# Altium schematic symbol library TRIAC,800V,12A,TO-220.SchLib: 1 symbol
Pins are listed as number, name and electrical type; pins without a type are passive.

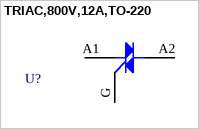
[diagram p0: symbol TRIAC,800V,12A,TO-220]

## TRIAC,800V,12A,TO-220
designator U?
pins: A1, A2, G